# Altium schematic symbol library VLP.SchLib: 4 symbols
Pins are listed as number, name and electrical type; pins without a type are passive.

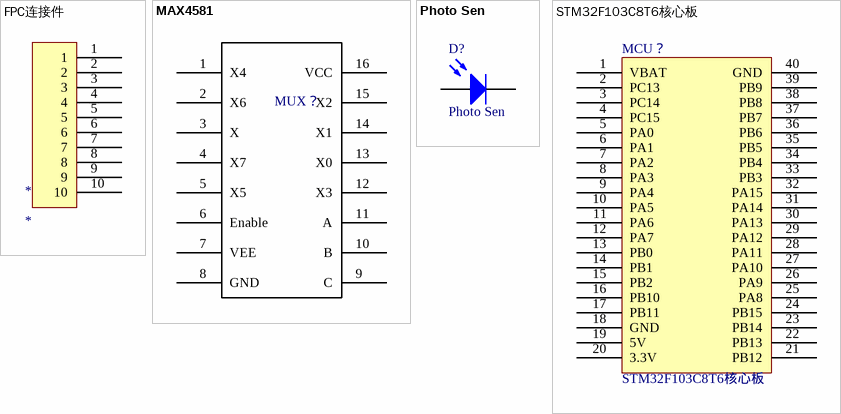
[diagram p0: symbols FPC连接件 to STM32F103C8T6核心板]

## FPC连接件
designator *
pins: 1, 2, 3, 4, 5, 6, 7, 8, 9, 10

## MAX4581
designator MUX？
MUX: MAX4581
pins: 1 X4, 2 X6, 3 X, 4 X7, 5 X5, 6 Enable, 7 VEE, 8 GND, 9 C, 10 B, 11 A, 12 X3, 13 X0, 14 X1, 15 X2, 16 VCC

## Photo Sen
designator D?
Photosensitive Diode; Published: 24-Mar-1999; LatestRevisionDate: 17-Jul-2002; LatestRevisionNote: Re-released for DXP Platform.; PackageReference: PIN2; Publisher: Altium Limited
footprint PIN2 (Photosensitive Diode; 2 Leads)
pins: 1 A, 2 K

## STM32F103C8T6核心板
designator MCU？
pins: 1 VBAT, 2 PC13, 3 PC14, 4 PC15, 5 PA0, 6 PA1, 7 PA2, 8 PA3, 9 PA4, 10 PA5, 11 PA6, 12 PA7, 13 PB0, 14 PB1, 15 PB2, 16 PB10, 17 PB11, 18 GND, 19 5V, 20 3.3V, 21 PB12, 22 PB13, 23 PB14, 24 PB15, 25 PA8, 26 PA9, 27 PA10, 28 PA11, 29 PA12, 30 PA13, 31 PA14, 32 PA15, 33 PB3, 34 PB4, 35 PB5, 36 PB6, 37 PB7, 38 PB8, 39 PB9, 40 GND